# Altium footprint library RESC_2512.PcbLib: 1 footprints
Each footprint in its own frame and in the unit in brackets; x right, y up, seen from the top. Pads: shape width x height; smd on the part's side, far side on the other; paste and mask are expansions set on the pad; w line width, h text height; cw(c..) or ccw(c..) is an arc to the next point about the centre after c.
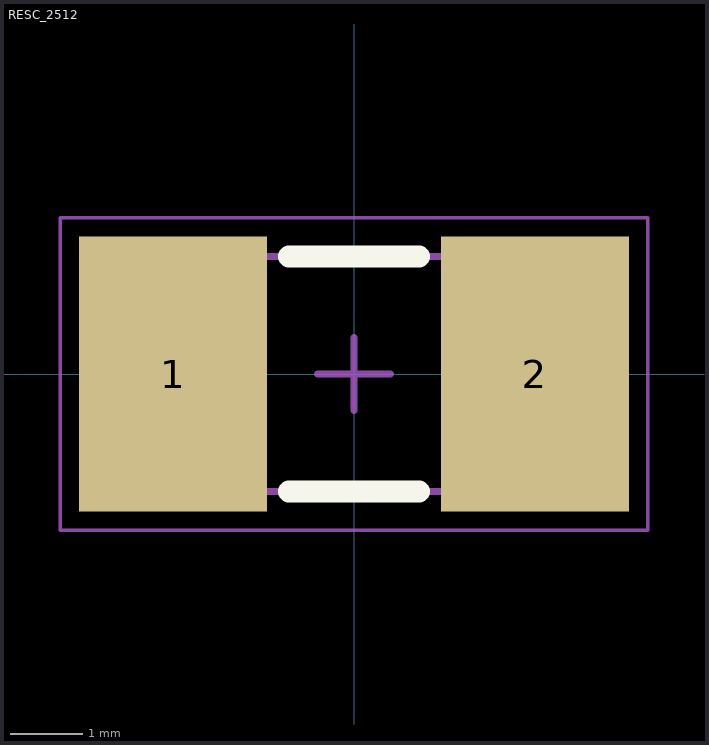
[diagram p0: the footprint, top view; thin cyan lines are the x and y axes]

## RESC_2512 [mm]
height 0.8
pads (2):
  rect 2.6x3.8 smd: 1(-2.5,0) 2(2.5,0)
Top Overlay:
  lines w0.3: -0.9,-1.625 0.9,-1.625 ; -0.9,1.625 0.9,1.625
Top 3D Body:
  lines w0.1: -3.275,-1.625 -3.275,1.625 3.275,1.625 3.275,-1.625 -3.275,-1.625
Top Courtyard (Mech15):
  lines w0.05: -4.064,-2.159 -4.064,2.159 4.064,2.159 4.064,-2.159 -4.064,-2.159
  lines w0.1: -0.5,0 0.5,0 ; 0,-0.5 0,0.5
3D body: height 0.51, standoff 0, extent -3.275,-1.625 3.275,1.625